# Altium schematic symbol library ECET231SCHLIB_Rev01.SCHLIB: 23 symbols
Pins are listed as number, name and electrical type; pins without a type are passive.

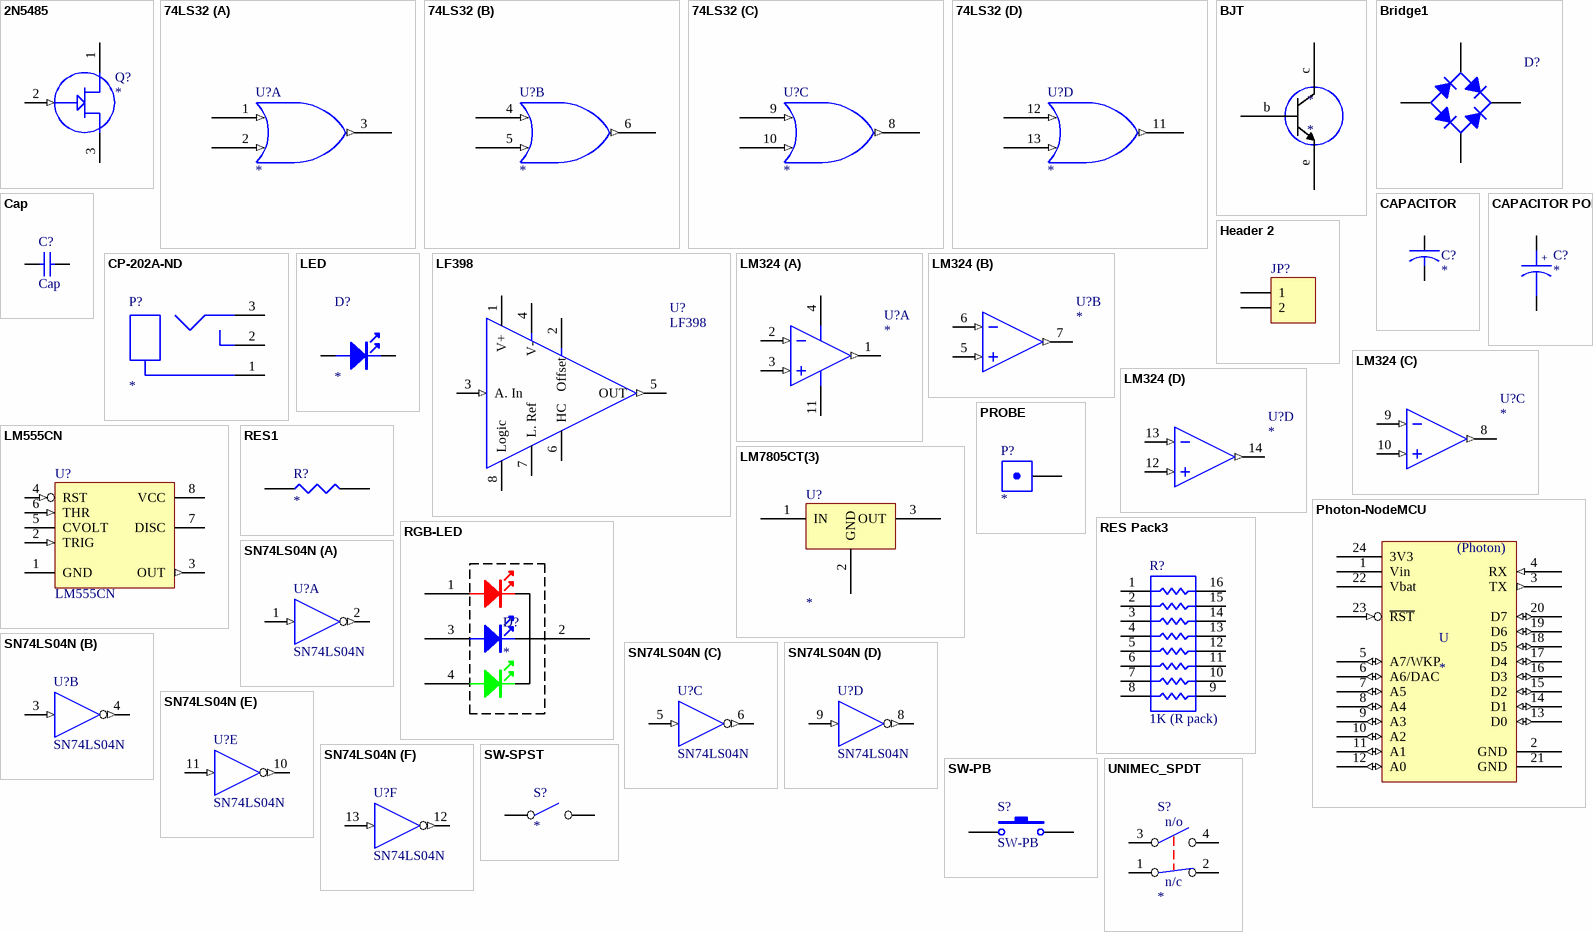
[diagram p0: symbols 2N5485 to UNIMEC_SPDT]

## 2N5485
designator Q?
N-channel JFET
footprint TO-92A
pins: 1 D, 2 G (in), 3 S

## 74LS32
designator U?
Quad 2-IN Pos OR
part A pins: 1 (in), 2 (in), 3 (out), 7 GND (power) hidden to GND, 14 VCC (power) hidden to VCC
part B pins: 4 (in), 5 (in), 6 (out)
part C pins: 8 (out), 9 (in), 10 (in)
part D pins: 11 (out), 12 (in), 13 (in)
2 alternate drawings of the same symbol

## BJT
designator *
BJT Transistor
pins: b, c, e

## Bridge1
designator D?
Full Wave Diode Bridge; Published: 8-Jun-2000; LatestRevisionDate: 29-May-2009; LatestRevisionNote: Sch pins A & K swapped.; DatasheetVersion: E2732B; PackageReference: D-38; Publisher: Altium Limited; PackageDescription: Bridge Rectifier; 4 Terminals; Body 9.4 x 9.4 mm (typ); Pitch 5.08 mm
footprint D-38 (Bridge Rectifier; 4 Terminals; Body 9.4 x 9.4 mm (typ); Pitch 5.08 mm)
simulation model BRIDGE (Spice Subcircuit)
pins: 1 K, 2 C, 3 A, 4 C

## Cap
designator C?
Ceramic Capacitor; Value: 100pF; Published: 8-Jun-2000; LatestRevisionDate: 17-Jul-2002; LatestRevisionNote: Re-released for DXP Platform.; PackageReference: RAD-0.3; Publisher: Altium Limited; PackageDescription: Radial Cap, Thru-Hole; 2 Leads; 0.3 in Pin Spacing
pins: 1, 2

## CAPACITOR
designator C?
Non-polarized Electrolytic Capacitor
footprint RAD0.2
pins: 1, 2

## CAPACITOR POL
designator C?
Polarized Electrolytic Capacitor
footprint RAD0.2-POL (Capacitor (Radial); 2 Leads)
pins: 1, 2
text: +

## CP-202A-ND
designator P?
Male Power Jack, PCB
footprint CP-202A-ND
pins: 1, 2, 3

## Header 2
designator JP?
Header, 2-Pin; Revision: 17-Jul-2002: Re-released for DXP Platform.; Publisher: Altium Limited
footprint HDR1X2 (Connector; Header; 2 Position)
signal-integrity model Connector
pins: 1, 2

## LED
designator D?
Light Emitting Diode LED
pins: A, K

## LF398
designator U?
Sample and Hold
pins: 1 V+ (power), 2 Offset, 3 A. In (in), 4 V- (power), 5 OUT (out), 6 HC, 7 L. Ref, 8 Logic

## LM324
designator U?
Quad Operational Amplifier
part A pins: 1 1 OUT (out), 2 1 IN- (in), 3 1 IN+ (in), 4 VCC (power), 11 VEE (power)
part B pins: 5 2 IN+ (in), 6 2 IN- (in), 7 2 OUT (out)
part C pins: 8 3 OUT (out), 9 3 IN- (in), 10 3 IN+ (in)
part D pins: 12 4 IN+ (in), 13 4 IN- (in), 14 4 OUT (out)

## LM555CN
designator U?
Timer; Package Information: Latest Revision: Sep-1997; Published: 15-Apr-2002; Datasheet: Latest Revision: May-1997; Package Reference: N08E; Publisher: Altium Limited
footprint DIP-8
footprint DIP8
pins: 1 GND (power), 2 TRIG (in), 3 OUT (out), 4 RST (in), 5 CVOLT, 6 THR (in), 7 DISC (oc), 8 VCC (power)

## LM7805CT(3)
designator U?
Three Terminal Voltage Regulator
pins: 1 IN (power), 2 GND (power), 3 OUT (power)

## Photon-NodeMCU
designator U
Photon-Node Microcontroller Unit
pins: 1 Vin (power), 2 GND (power), 3 TX (out), 4 RX (in), 5 A7/WKP (io), 6 A6/DAC (io), 7 A5 (io), 8 A4 (io), 9 A3 (io), 10 A2 (io), 11 A1 (io), 12 A0 (io), 13 D0 (io), 14 D1 (io), 15 D2 (io), 16 D3 (io), 17 D4 (io), 18 D5 (io), 19 D6 (io), 20 D7 (io), 21 GND (power), 22 Vbat (power), 23 ~{RST} (in), 24 3V3 (power)
text: (Photon)

## PROBE
designator P?
Probe
pins: 1

## RES1
designator R?
Resistor
footprint axial0.5
pins: 1, 2

## RES Pack3
designator R?, comment 1K (R pack)
Isolated Resistor Network ( x 8); Published: 24-Mar-1999; LatestRevisionDate: 17-Jul-2002; LatestRevisionNote: Re-released for DXP Platform.; Publisher: Altium Limited
footprint DIP16 (Footprint not found)
pins: 1, 2, 3, 4, 5, 6, 7, 8, 9, 10, 11, 12, 13, 14, 15, 16

## RGB-LED
designator D?
RGB Capable LED
pins: 1, 2, 3, 4

## SN74LS04N
designator U?
Hex Inverter; Published: 8-Jun-2000; LatestRevisionDate: 04-Mar-2005; LatestRevisionNote: Stylized 3D Model Added.; DatasheetVersion: Mar-1988; PackageVersion: Oct-1995; PackageReference: N014; Publisher: Altium Limited; PackageDescription: DIP; 14 Leads; Row Spacing 7.62 mm; Pitch 2.54 mm; ComponentLink1Description: Manufacturer Link; ComponentLink1URL: http://www.ti.com/; ComponentLink2Description: Datasheet; ComponentLink2URL: http://www-s.ti.com/sc/ds/sn5404.pdf; ComponentLink3Description: Packaging Specification; ComponentLink3URL: http://focus.ti.com/lit/ml/mpdi002c/mpdi002c.pdf
footprint N014 (DIP; 14 Leads; Row Spacing 7.62 mm; Pitch 2.54 mm)
3D model N014 (DIP; 14 Leads; Row Spacing 7.62 mm; Pitch 2.54 mm)
signal-integrity model SN7404N
footprint DIP14
pins on every part: 7 GND (power) hidden to GND, 14 VCC (power) hidden to VCC
part A pins: 1 A (in), 2 Y (out)
part B pins: 3 A (in), 4 Y (out)
part C pins: 5 A (in), 6 Y (out)
part D pins: 8 Y (out), 9 A (in)
part E pins: 10 Y (out), 11 A (in)
part F pins: 12 Y (out), 13 A (in)

## SW-PB
designator S?
Push-button Switch; Published: 24-Mar-1999; LatestRevisionDate: 17-Jul-2002; LatestRevisionNote: Re-released for DXP Platform.; PackageReference: SPST-2; Publisher: Altium Limited; PackageDescription: Switch; 2 Leads
footprint SPST-2 (Switch; 2 Leads)
pins: 1, 2

## SW-SPST
designator S?
Single-Pull-Single-Throw Switch
pins: 1, 2

## UNIMEC_SPDT
designator S?
Unimec Switch
pins: 1 COMMON (power), 2 n/c, 3 COMMON, 4 n/o